# EAGLE library part E100-M7-DPDT (library switch)
E-Switch, 100 Series
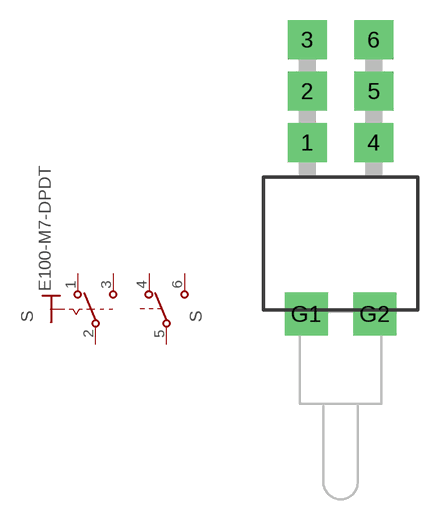
[diagram p12: symbol with the pads of E100-M7-DPDT; footprint E100-M7-DPDT]

Designator prefix S; gates G$1=KS-U- G$2=U2

## E100-M7-DPDT  [E100-M7-DPDT]
1  G$1:O  pas
2  G$1:P  pas
3  G$1:S  pas
4  G$2:O  pas
5  G$2:P  pas
6  G$2:S  pas

## Footprint E100-M7-DPDT (pad centres in mm)
drill 1.93 square: 1 -2.461,0; 2 -2.461,3.81; 3 -2.461,7.62; 4 2.461,0; 5 2.461,3.81; 6 2.461,7.62
drill 1.93 pad 3.175 square: G1 -2.54,-12.7; G2 2.54,-12.7